# Altium schematic symbol library Stmpe24m31.Schlib: 1 symbol
Pins are listed as number, name and electrical type; pins without a type are passive.

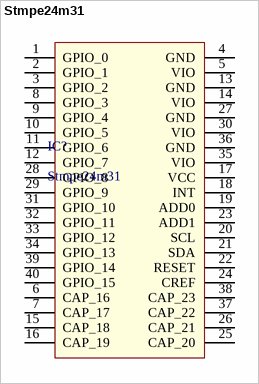
[diagram p0: symbol Stmpe24m31]

## Stmpe24m31
designator IC?
Touch Sensor
pins: 1 GPIO_0, 2 GPIO_1, 3 GPIO_2, 4 GND, 5 VIO, 6 CAP_16, 7 CAP_17, 8 GPIO_3, 9 GPIO_4, 10 GPIO_5, 11 GPIO_6, 12 GPIO_7, 13 GND, 14 VIO, 15 CAP_18, 16 CAP_19, 17 VCC, 18 INT, 19 ADD0, 20 SCL, 21 SDA, 22 RESET, 23 ADD1, 24 CREF, 25 CAP_20, 26 CAP_21, 27 GND, 28 GPIO_8, 29 GPIO_9, 30 VIO, 31 GPIO_10, 32 GPIO_11, 33 GPIO_12, 34 GPIO_13, 35 VIO, 36 GND, 37 CAP_22, 38 CAP_23, 39 GPIO_14, 40 GPIO_15